# Altium schematic symbol library TSP2121RUXR.SchLib: 1 symbol
Pins are listed as number, name and electrical type; pins without a type are passive.

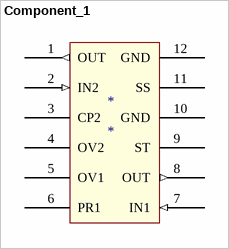
[diagram p0: symbol Component_1]

## Component_1
designator *
pins: 1 OUT (out) "Power output", 2 IN2 (in), 3 CP2, 4 OV2, 5 OV1, 6 PR1 "Enables priority operation", 7 IN1 (in), 8 OUT (out), 9 ST, 10 GND, 11 SS, 12 GND